# Altium schematic symbol library Relay_932_SL_AH.SchLib: 1 symbol
Pins are listed as number, name and electrical type; pins without a type are passive.

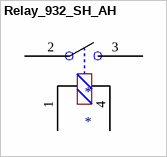
[diagram p0: symbol Relay_932_SH_AH]

## Relay_932_SH_AH
designator *
footprint RELAY932
pins: 1, 2, 3, 4